# Altium schematic symbol library SY7208 .SchLib: 1 symbol
Pins are listed as number, name and electrical type; pins without a type are passive.

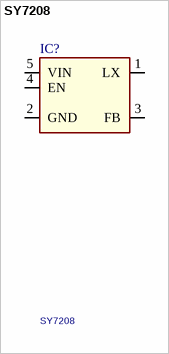
[diagram p0: symbol SY7208]

## SY7208
designator IC?
ID: SY7208; PDF: http://img.hqew.com/file/Others/110000-119999/113018/Electronic/201383153655755086.pdf; PRICE: 2.73000
footprint SOT23-6
pins: 1 LX, 2 GND, 3 FB, 4 EN, 5 VIN